# Altium schematic symbol library Z.SchLib: 3 symbols
Pins are listed as number, name and electrical type; pins without a type are passive.

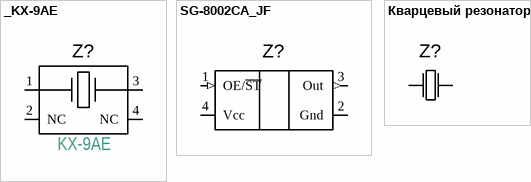
[diagram p0: symbols _KX-9AE to Кварцевый резонатор]

## _KX-9AE
designator Z?
pins: 1 X1, 2 NC, 3 X2, 4 NC
text: KX-9AE

## SG-8002CA_JF
designator Z?
pins: 1 OE/~{ST} (in), 2 Gnd (power), 3 Out (out), 4 Vcc (power)

## Кварцевый резонатор
designator Z?
footprint HC-49H
pins: 1 X1, 2 X2